# Altium footprint library SM_DCDC_ISO_1W.PcbLib: 1 footprints
Each footprint in its own frame and in the unit in brackets; x right, y up, seen from the top. Pads: shape width x height; smd on the part's side, far side on the other; paste and mask are expansions set on the pad; w line width, h text height; cw(c..) or ccw(c..) is an arc to the next point about the centre after c.
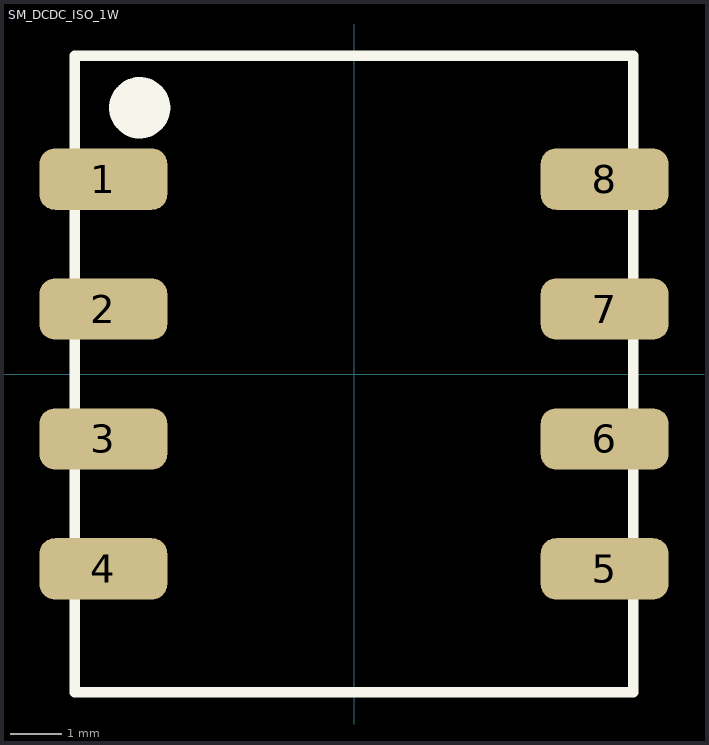
[diagram p0: the footprint, top view; thin cyan lines are the x and y axes]

## SM_DCDC_ISO_1W [mm]
height 7
pads (8):
  rrect50% 2.5x1.2 smd: 1(-4.9,3.81) 2(-4.9,1.27) 3(-4.9,-1.27) 4(-4.9,-3.81) 5(4.9,-3.81) 6(4.9,-1.27) 7(4.9,1.27) 8(4.9,3.81)
Top Overlay:
  circle w0.6: c-4.191,5.207 r0.3
  lines w0.2: -5.461,-6.223 5.461,-6.223 5.461,6.223 -5.461,6.223 -5.461,-6.223
Mechanical 13:
  circle w0.1: c-4.191,5.207 r0.5
  lines w0.1: -5.461,-6.223 5.461,-6.223 5.461,6.223 -5.461,6.223 -5.461,-6.223
3D body "mps_dcdc_mte1s_mc_a.step": height 7.07, standoff 0, extent -5.5,-6.35 5.5,6.35